# Altium footprint library 2021-03-17_08-27-32.PcbLib: 3 footprints
Each footprint in its own frame and in the unit in brackets; x right, y up, seen from the top. Pads: shape width x height; smd on the part's side, far side on the other; paste and mask are expansions set on the pad; w line width, h text height; cw(c..) or ccw(c..) is an arc to the next point about the centre after c.
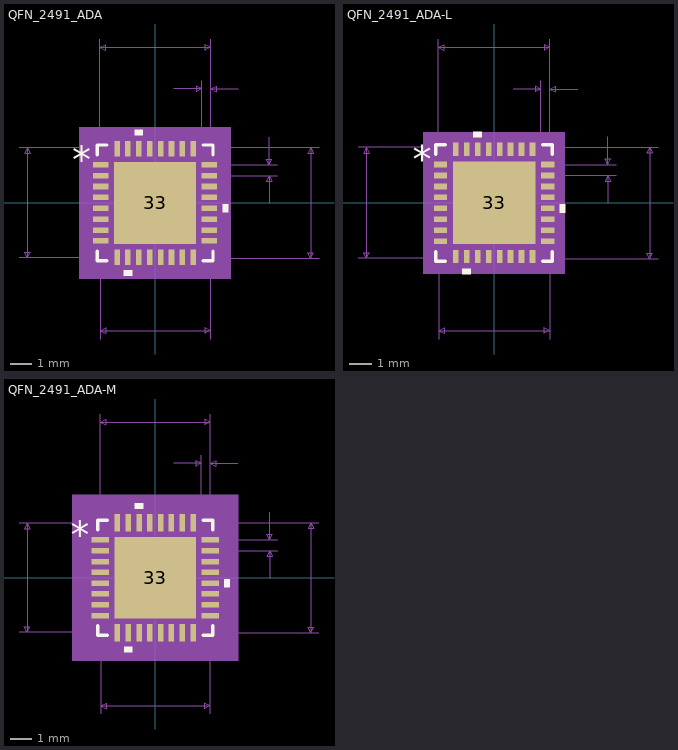
[diagram p0: the footprints below, top view; thin cyan lines are the x and y axes]

## QFN_2491_ADA [mil]
pads (33):
  rect 28x10 smd paste+0 mask+0: 1(-98,68.9) 2(-98,49.21) 3(-98,29.53) 4(-98,9.84) 5(-98,-9.84) 6(-98,-29.53) 7(-98,-49.21) 8(-98,-68.9) 17(98,-68.9) 18(98,-49.21) 19(98,-29.53) 20(98,-9.84) 21(98,9.84) 22(98,29.53) 23(98,49.21) 24(98,68.9)
  rect 10x28 smd paste+0 mask+0: 9(-68.9,-98) 10(-49.21,-98) 11(-29.53,-98) 12(-9.84,-98) 13(9.84,-98) 14(29.53,-98) 15(49.21,-98) 16(68.9,-98) 25(68.9,98) 26(49.21,98) 27(29.53,98) 28(9.84,98) 29(-9.84,98) 30(-29.53,98) 31(-49.21,98) 32(-68.9,98)
  rect 148x148 smd paste-73.5 mask+0: 33(0,0)
Top Overlay:
  region: -41.71,-122 -56.71,-122 -56.71,-132 -41.71,-132
  region: 122,-2.34 132,-2.34 132,-17.34 122,-17.34
  region: -22.03,122 -37.03,122 -37.03,132 -22.03,132
  lines w6: -104.5,-87 -104.5,-104.5 -87,-104.5 ; -104.5,87 -104.5,104.5 -87,104.5 ; 87,-104.5 104.5,-104.5 104.5,-87 ; 87,104.5 104.5,104.5 104.5,87
  text "*" at -149.5,53.74 h50
Top Paste:
  region: -3.94,70.06 -70.06,70.06 -70.06,3.94 -3.94,3.94
  region: -3.94,-3.94 -70.06,-3.94 -70.06,-70.06 -3.94,-70.06
  region: 70.06,70.06 3.94,70.06 3.94,3.94 70.06,3.94
  region: 70.06,-3.94 3.94,-3.94 3.94,-70.06 70.06,-70.06
Mechanical 5:
  region: 137,-137 -137,-137 -137,137 137,137
Mechanical 7:
  lines w1: -246,-99.5 99.5,-99.5 ; -246,99.5 99.5,99.5 99.5,-246 ; -100,68.9 -100,296 ; -99.5,-246 -99.5,99.5 ; 34,206 84,206 ; 68.9,-100 296,-100 ; 68.9,100 296,100 ; 84,68.9 84,221 ; 98,49.21 221,49.21 ; 98,68.9 221,68.9 ; 100,221 100,68.9 100,296 ; 150,206 100,206 ; 206,-0.79 206,49.21 ; 206,118.9 206,68.9 ; -231,-99.5 -231,99.5 ; -231,-99.5 -236,-89.5 -226,-89.5 -231,-99.5 ; -231,99.5 -236,89.5 -226,89.5 -231,99.5 ; -100,281 100,281 ; -100,281 -90,286 -90,276 -100,281 ; -99.5,-231 99.5,-231 ; -99.5,-231 -89.5,-226 -89.5,-236 -99.5,-231 ; 84,206 74,211 74,201 84,206 ; 99.5,-231 89.5,-226 89.5,-236 99.5,-231 ; 100,206 110,211 110,201 100,206 ; 100,281 90,286 90,276 100,281 ; 206,49.21 201,39.21 211,39.21 206,49.21 ; 206,68.9 201,78.9 211,78.9 206,68.9 ; 281,-100 281,100 ; 281,-100 276,-90 286,-90 281,-100 ; 281,100 276,90 286,90 281,100
  text "Default Padstyle: RX10Y28D0T" at -350,-422 h50
  text "Heat Tab Padstyle: RX148Y148D0T" at -387.5,-482 h50
  text "Alt 1 Padstyle: OX60Y90D30P" at -337.5,-602 h50
  text "Alt 2 Padstyle: OX90Y60D30P" at -337.5,-662 h50
  text "0.02in/0.5mm" at 226,46.56 h25
  text "0.016in/0.406mm" at -1.75,226 h25
  text "0.2in/5.08mm" at -75,301 h25
  text "0.2in/5.08mm" at 301,-12.5 h25
  text "0.199in/5.055mm" at -438.5,-12.5 h25
  text "0.199in/5.055mm" at -93.75,-276 h25
Mechanical 13:
  lines w1: -99.5,49.5 -49.5,99.5 ; -99.5,-99.5 99.5,-99.5 ; -99.5,-99.5 -99.5,99.5 ; -99.5,-99.5 -99.5,-99.5 ; -99.5,99.5 99.5,99.5 ; -99.5,99.5 -99.5,99.5 ; 99.5,-99.5 99.5,-99.5 ; 99.5,-99.5 99.5,99.5 ; 99.5,99.5 99.5,99.5 ; -100,-74.9 -100,-62.9 -99.5,-62.9 -99.5,-74.9 -100,-74.9 ; -100,-55.21 -100,-43.21 -99.5,-43.21 -99.5,-55.21 -100,-55.21 ; -100,-35.53 -100,-23.53 -99.5,-23.53 -99.5,-35.53 -100,-35.53 ; -100,-15.84 -100,-3.84 -99.5,-3.84 -99.5,-15.84 -100,-15.84 ; -100,3.84 -100,15.84 -99.5,15.84 -99.5,3.84 -100,3.84 ; -100,23.53 -100,35.53 -99.5,35.53 -99.5,23.53 -100,23.53 ; -100,43.21 -100,55.21 -99.5,55.21 -99.5,43.21 -100,43.21 ; -100,62.9 -100,74.9 -99.5,74.9 -99.5,62.9 -100,62.9 ; -74.9,-100 -74.9,-99.5 -62.9,-99.5 -62.9,-100 -74.9,-100 ; -74.9,99.5 -62.9,99.5 -62.9,100 -74.9,100 -74.9,99.5 ; -55.21,-100 -55.21,-99.5 -43.21,-99.5 -43.21,-100 -55.21,-100 ; -55.21,99.5 -43.21,99.5 -43.21,100 -55.21,100 -55.21,99.5 ; -35.53,-100 -35.53,-99.5 -23.53,-99.5 -23.53,-100 -35.53,-100 ; -35.53,99.5 -23.53,99.5 -23.53,100 -35.53,100 -35.53,99.5 ; -15.84,-100 -15.84,-99.5 -3.84,-99.5 -3.84,-100 -15.84,-100 ; -15.84,99.5 -3.84,99.5 -3.84,100 -15.84,100 -15.84,99.5 ; 3.84,-100 3.84,-99.5 15.84,-99.5 15.84,-100 3.84,-100 ; 3.84,99.5 15.84,99.5 15.84,100 3.84,100 3.84,99.5 ; 23.53,-100 23.53,-99.5 35.53,-99.5 35.53,-100 23.53,-100 ; 23.53,99.5 35.53,99.5 35.53,100 23.53,100 23.53,99.5 ; 43.21,-100 43.21,-99.5 55.21,-99.5 55.21,-100 43.21,-100 ; 43.21,99.5 55.21,99.5 55.21,100 43.21,100 43.21,99.5 ; 62.9,-100 62.9,-99.5 74.9,-99.5 74.9,-100 62.9,-100 ; 62.9,99.5 74.9,99.5 74.9,100 62.9,100 62.9,99.5 ; 99.5,-74.9 99.5,-62.9 100,-62.9 100,-74.9 99.5,-74.9 ; 99.5,-55.21 99.5,-43.21 100,-43.21 100,-55.21 99.5,-55.21 ; 99.5,-35.53 99.5,-23.53 100,-23.53 100,-35.53 99.5,-35.53 ; 99.5,-15.84 99.5,-3.84 100,-3.84 100,-15.84 99.5,-15.84 ; 99.5,3.84 99.5,15.84 100,15.84 100,3.84 99.5,3.84 ; 99.5,23.53 99.5,35.53 100,35.53 100,23.53 99.5,23.53 ; 99.5,43.21 99.5,55.21 100,55.21 100,43.21 99.5,43.21 ; 99.5,62.9 99.5,74.9 100,74.9 100,62.9 99.5,62.9
  text "*" at -96.5,53.74 h50
Mechanical 15:
  region: -83.9,-109.5 -109.5,-109.5 -109.5,-83.9 -122,-83.9 -122,83.9 -109.5,83.9 -109.5,109.5 -83.9,109.5 -83.9,122 83.9,122 83.9,109.5 109.5,109.5 109.5,83.9 122,83.9 122,-83.9 109.5,-83.9 109.5,-109.5 83.9,-109.5 83.9,-122 -83.9,-122
  lines w6: -122,-83.9 -109.5,-83.9 -109.5,-109.5 -83.9,-109.5 -83.9,-122 83.9,-122 83.9,-109.5 109.5,-109.5 109.5,-83.9 122,-83.9 122,83.9 109.5,83.9 109.5,109.5 83.9,109.5 83.9,122 -83.9,122 -83.9,109.5 -109.5,109.5 -109.5,83.9 -122,83.9 -122,-83.9
3D body: height 10, standoff 0, extent 0,0 10,10

## QFN_2491_ADA-L [mil]
pads (33):
  rect 24x10 smd paste+0 mask+0: 1(-96,68.9) 2(-96,49.21) 3(-96,29.53) 4(-96,9.84) 5(-96,-9.84) 6(-96,-29.53) 7(-96,-49.21) 8(-96,-68.9) 17(96,-68.9) 18(96,-49.21) 19(96,-29.53) 20(96,-9.84) 21(96,9.84) 22(96,29.53) 23(96,49.21) 24(96,68.9)
  rect 10x24 smd paste+0 mask+0: 9(-68.9,-96) 10(-49.21,-96) 11(-29.53,-96) 12(-9.84,-96) 13(9.84,-96) 14(29.53,-96) 15(49.21,-96) 16(68.9,-96) 25(68.9,96) 26(49.21,96) 27(29.53,96) 28(9.84,96) 29(-9.84,96) 30(-29.53,96) 31(-49.21,96) 32(-68.9,96)
  rect 148x148 smd paste-73.5 mask+0: 33(0,0)
Top Overlay:
  region: -41.71,-118 -56.71,-118 -56.71,-128 -41.71,-128
  region: 118,-2.34 128,-2.34 128,-17.34 118,-17.34
  region: -22.03,118 -37.03,118 -37.03,128 -22.03,128
  lines w6: -104.5,-87 -104.5,-104.5 -87,-104.5 ; -104.5,87 -104.5,104.5 -87,104.5 ; 87,-104.5 104.5,-104.5 104.5,-87 ; 87,104.5 104.5,104.5 104.5,87
  text "*" at -145.5,53.74 h50
Top Paste:
  region: -3.94,70.06 -70.06,70.06 -70.06,3.94 -3.94,3.94
  region: -3.94,-3.94 -70.06,-3.94 -70.06,-70.06 -3.94,-70.06
  region: 70.06,70.06 3.94,70.06 3.94,3.94 70.06,3.94
  region: 70.06,-3.94 3.94,-3.94 3.94,-70.06 70.06,-70.06
Mechanical 5:
  region: 127,-127 -127,-127 -127,127 127,127
Mechanical 7:
  lines w1: -244,-99.5 99.5,-99.5 ; -244,99.5 99.5,99.5 99.5,-244 ; -100,68.9 -100,294 ; -99.5,-244 -99.5,99.5 ; 34,204 84,204 ; 68.9,-100 294,-100 ; 68.9,100 294,100 ; 84,68.9 84,219 ; 96,49.21 219,49.21 ; 96,68.9 219,68.9 ; 100,219 100,68.9 100,294 ; 150,204 100,204 ; 204,-0.79 204,49.21 ; 204,118.9 204,68.9 ; -229,-99.5 -229,99.5 ; -229,-99.5 -234,-89.5 -224,-89.5 -229,-99.5 ; -229,99.5 -234,89.5 -224,89.5 -229,99.5 ; -100,279 100,279 ; -100,279 -90,284 -90,274 -100,279 ; -99.5,-229 99.5,-229 ; -99.5,-229 -89.5,-224 -89.5,-234 -99.5,-229 ; 84,204 74,209 74,199 84,204 ; 99.5,-229 89.5,-224 89.5,-234 99.5,-229 ; 100,204 110,209 110,199 100,204 ; 100,279 90,284 90,274 100,279 ; 204,49.21 199,39.21 209,39.21 204,49.21 ; 204,68.9 199,78.9 209,78.9 204,68.9 ; 279,-100 279,100 ; 279,-100 274,-90 284,-90 279,-100 ; 279,100 274,90 284,90 279,100
  text "Default Padstyle: RX10Y24D0T" at -350,-418 h50
  text "Heat Tab Padstyle: RX148Y148D0T" at -387.5,-478 h50
  text "Alt 1 Padstyle: OX60Y90D30P" at -337.5,-598 h50
  text "Alt 2 Padstyle: OX90Y60D30P" at -337.5,-658 h50
  text "0.02in/0.5mm" at 224,46.56 h25
  text "0.016in/0.406mm" at -1.75,224 h25
  text "0.2in/5.08mm" at -75,299 h25
  text "0.2in/5.08mm" at 299,-12.5 h25
  text "0.199in/5.055mm" at -436.5,-12.5 h25
  text "0.199in/5.055mm" at -93.75,-274 h25
Mechanical 13:
  lines w1: -99.5,49.5 -49.5,99.5 ; -99.5,-99.5 99.5,-99.5 ; -99.5,-99.5 -99.5,99.5 ; -99.5,-99.5 -99.5,-99.5 ; -99.5,99.5 99.5,99.5 ; -99.5,99.5 -99.5,99.5 ; 99.5,-99.5 99.5,-99.5 ; 99.5,-99.5 99.5,99.5 ; 99.5,99.5 99.5,99.5 ; -100,-74.9 -100,-62.9 -99.5,-62.9 -99.5,-74.9 -100,-74.9 ; -100,-55.21 -100,-43.21 -99.5,-43.21 -99.5,-55.21 -100,-55.21 ; -100,-35.53 -100,-23.53 -99.5,-23.53 -99.5,-35.53 -100,-35.53 ; -100,-15.84 -100,-3.84 -99.5,-3.84 -99.5,-15.84 -100,-15.84 ; -100,3.84 -100,15.84 -99.5,15.84 -99.5,3.84 -100,3.84 ; -100,23.53 -100,35.53 -99.5,35.53 -99.5,23.53 -100,23.53 ; -100,43.21 -100,55.21 -99.5,55.21 -99.5,43.21 -100,43.21 ; -100,62.9 -100,74.9 -99.5,74.9 -99.5,62.9 -100,62.9 ; -74.9,-100 -74.9,-99.5 -62.9,-99.5 -62.9,-100 -74.9,-100 ; -74.9,99.5 -62.9,99.5 -62.9,100 -74.9,100 -74.9,99.5 ; -55.21,-100 -55.21,-99.5 -43.21,-99.5 -43.21,-100 -55.21,-100 ; -55.21,99.5 -43.21,99.5 -43.21,100 -55.21,100 -55.21,99.5 ; -35.53,-100 -35.53,-99.5 -23.53,-99.5 -23.53,-100 -35.53,-100 ; -35.53,99.5 -23.53,99.5 -23.53,100 -35.53,100 -35.53,99.5 ; -15.84,-100 -15.84,-99.5 -3.84,-99.5 -3.84,-100 -15.84,-100 ; -15.84,99.5 -3.84,99.5 -3.84,100 -15.84,100 -15.84,99.5 ; 3.84,-100 3.84,-99.5 15.84,-99.5 15.84,-100 3.84,-100 ; 3.84,99.5 15.84,99.5 15.84,100 3.84,100 3.84,99.5 ; 23.53,-100 23.53,-99.5 35.53,-99.5 35.53,-100 23.53,-100 ; 23.53,99.5 35.53,99.5 35.53,100 23.53,100 23.53,99.5 ; 43.21,-100 43.21,-99.5 55.21,-99.5 55.21,-100 43.21,-100 ; 43.21,99.5 55.21,99.5 55.21,100 43.21,100 43.21,99.5 ; 62.9,-100 62.9,-99.5 74.9,-99.5 74.9,-100 62.9,-100 ; 62.9,99.5 74.9,99.5 74.9,100 62.9,100 62.9,99.5 ; 99.5,-74.9 99.5,-62.9 100,-62.9 100,-74.9 99.5,-74.9 ; 99.5,-55.21 99.5,-43.21 100,-43.21 100,-55.21 99.5,-55.21 ; 99.5,-35.53 99.5,-23.53 100,-23.53 100,-35.53 99.5,-35.53 ; 99.5,-15.84 99.5,-3.84 100,-3.84 100,-15.84 99.5,-15.84 ; 99.5,3.84 99.5,15.84 100,15.84 100,3.84 99.5,3.84 ; 99.5,23.53 99.5,35.53 100,35.53 100,23.53 99.5,23.53 ; 99.5,43.21 99.5,55.21 100,55.21 100,43.21 99.5,43.21 ; 99.5,62.9 99.5,74.9 100,74.9 100,62.9 99.5,62.9
  text "*" at -96.5,53.74 h50
Mechanical 15:
  region: -77.9,-103.5 -103.5,-103.5 -103.5,-77.9 -112,-77.9 -112,77.9 -103.5,77.9 -103.5,103.5 -77.9,103.5 -77.9,112 77.9,112 77.9,103.5 103.5,103.5 103.5,77.9 112,77.9 112,-77.9 103.5,-77.9 103.5,-103.5 77.9,-103.5 77.9,-112 -77.9,-112
  lines w6: -112,-77.9 -103.5,-77.9 -103.5,-103.5 -77.9,-103.5 -77.9,-112 77.9,-112 77.9,-103.5 103.5,-103.5 103.5,-77.9 112,-77.9 112,77.9 103.5,77.9 103.5,103.5 77.9,103.5 77.9,112 -77.9,112 -77.9,103.5 -103.5,103.5 -103.5,77.9 -112,77.9 -112,-77.9
3D body: height 10, standoff 0, extent 0,0 10,10

## QFN_2491_ADA-M [mil]
pads (33):
  rect 32x10 smd paste+0 mask+0: 1(-100,68.9) 2(-100,49.21) 3(-100,29.53) 4(-100,9.84) 5(-100,-9.84) 6(-100,-29.53) 7(-100,-49.21) 8(-100,-68.9) 17(100,-68.9) 18(100,-49.21) 19(100,-29.53) 20(100,-9.84) 21(100,9.84) 22(100,29.53) 23(100,49.21) 24(100,68.9)
  rect 10x32 smd paste+0 mask+0: 9(-68.9,-100) 10(-49.21,-100) 11(-29.53,-100) 12(-9.84,-100) 13(9.84,-100) 14(29.53,-100) 15(49.21,-100) 16(68.9,-100) 25(68.9,100) 26(49.21,100) 27(29.53,100) 28(9.84,100) 29(-9.84,100) 30(-29.53,100) 31(-49.21,100) 32(-68.9,100)
  rect 148x148 smd paste-73.5 mask+0: 33(0,0)
Top Overlay:
  region: -41.71,-126 -56.71,-126 -56.71,-136 -41.71,-136
  region: 126,-2.34 136,-2.34 136,-17.34 126,-17.34
  region: -22.03,126 -37.03,126 -37.03,136 -22.03,136
  lines w6: -104.5,-87 -104.5,-104.5 -87,-104.5 ; -104.5,87 -104.5,104.5 -87,104.5 ; 87,-104.5 104.5,-104.5 104.5,-87 ; 87,104.5 104.5,104.5 104.5,87
  text "*" at -153.5,53.74 h50
Top Paste:
  region: -3.94,70.06 -70.06,70.06 -70.06,3.94 -3.94,3.94
  region: -3.94,-3.94 -70.06,-3.94 -70.06,-70.06 -3.94,-70.06
  region: 70.06,70.06 3.94,70.06 3.94,3.94 70.06,3.94
  region: 70.06,-3.94 3.94,-3.94 3.94,-70.06 70.06,-70.06
Mechanical 5:
  region: 151,-151 -151,-151 -151,151 151,151
Mechanical 7:
  lines w1: -248,-99.5 99.5,-99.5 ; -248,99.5 99.5,99.5 99.5,-248 ; -100,68.9 -100,298 ; -99.5,-248 -99.5,99.5 ; 34,208 84,208 ; 68.9,-100 298,-100 ; 68.9,100 298,100 ; 84,68.9 84,223 ; 100,49.21 223,49.21 ; 100,223 100,68.9 ; 100,298 100,68.9 ; 150,208 100,208 ; 208,-0.79 208,49.21 ; 208,118.9 208,68.9 ; 223,68.9 100,68.9 ; -233,-99.5 -233,99.5 ; -233,-99.5 -238,-89.5 -228,-89.5 -233,-99.5 ; -233,99.5 -238,89.5 -228,89.5 -233,99.5 ; -100,283 100,283 ; -100,283 -90,288 -90,278 -100,283 ; -99.5,-233 99.5,-233 ; -99.5,-233 -89.5,-228 -89.5,-238 -99.5,-233 ; 84,208 74,213 74,203 84,208 ; 99.5,-233 89.5,-228 89.5,-238 99.5,-233 ; 100,208 110,213 110,203 100,208 ; 100,283 90,288 90,278 100,283 ; 208,49.21 203,39.21 213,39.21 208,49.21 ; 208,68.9 203,78.9 213,78.9 208,68.9 ; 283,-100 283,100 ; 283,-100 278,-90 288,-90 283,-100 ; 283,100 278,90 288,90 283,100
  text "Default Padstyle: RX10Y32D0T" at -350,-426 h50
  text "Heat Tab Padstyle: RX148Y148D0T" at -387.5,-486 h50
  text "Alt 1 Padstyle: OX60Y90D30P" at -337.5,-606 h50
  text "Alt 2 Padstyle: OX90Y60D30P" at -337.5,-666 h50
  text "0.02in/0.5mm" at 228,46.56 h25
  text "0.016in/0.406mm" at -1.75,228 h25
  text "0.2in/5.08mm" at -75,303 h25
  text "0.2in/5.08mm" at 303,-12.5 h25
  text "0.199in/5.055mm" at -440.5,-12.5 h25
  text "0.199in/5.055mm" at -93.75,-278 h25
Mechanical 13:
  lines w1: -99.5,49.5 -49.5,99.5 ; -99.5,-99.5 99.5,-99.5 ; -99.5,-99.5 -99.5,99.5 ; -99.5,-99.5 -99.5,-99.5 ; -99.5,99.5 99.5,99.5 ; -99.5,99.5 -99.5,99.5 ; 99.5,-99.5 99.5,-99.5 ; 99.5,-99.5 99.5,99.5 ; 99.5,99.5 99.5,99.5 ; -100,-74.9 -100,-62.9 -99.5,-62.9 -99.5,-74.9 -100,-74.9 ; -100,-55.21 -100,-43.21 -99.5,-43.21 -99.5,-55.21 -100,-55.21 ; -100,-35.53 -100,-23.53 -99.5,-23.53 -99.5,-35.53 -100,-35.53 ; -100,-15.84 -100,-3.84 -99.5,-3.84 -99.5,-15.84 -100,-15.84 ; -100,3.84 -100,15.84 -99.5,15.84 -99.5,3.84 -100,3.84 ; -100,23.53 -100,35.53 -99.5,35.53 -99.5,23.53 -100,23.53 ; -100,43.21 -100,55.21 -99.5,55.21 -99.5,43.21 -100,43.21 ; -100,62.9 -100,74.9 -99.5,74.9 -99.5,62.9 -100,62.9 ; -74.9,-100 -74.9,-99.5 -62.9,-99.5 -62.9,-100 -74.9,-100 ; -74.9,99.5 -62.9,99.5 -62.9,100 -74.9,100 -74.9,99.5 ; -55.21,-100 -55.21,-99.5 -43.21,-99.5 -43.21,-100 -55.21,-100 ; -55.21,99.5 -43.21,99.5 -43.21,100 -55.21,100 -55.21,99.5 ; -35.53,-100 -35.53,-99.5 -23.53,-99.5 -23.53,-100 -35.53,-100 ; -35.53,99.5 -23.53,99.5 -23.53,100 -35.53,100 -35.53,99.5 ; -15.84,-100 -15.84,-99.5 -3.84,-99.5 -3.84,-100 -15.84,-100 ; -15.84,99.5 -3.84,99.5 -3.84,100 -15.84,100 -15.84,99.5 ; 3.84,-100 3.84,-99.5 15.84,-99.5 15.84,-100 3.84,-100 ; 3.84,99.5 15.84,99.5 15.84,100 3.84,100 3.84,99.5 ; 23.53,-100 23.53,-99.5 35.53,-99.5 35.53,-100 23.53,-100 ; 23.53,99.5 35.53,99.5 35.53,100 23.53,100 23.53,99.5 ; 43.21,-100 43.21,-99.5 55.21,-99.5 55.21,-100 43.21,-100 ; 43.21,99.5 55.21,99.5 55.21,100 43.21,100 43.21,99.5 ; 62.9,-100 62.9,-99.5 74.9,-99.5 74.9,-100 62.9,-100 ; 62.9,99.5 74.9,99.5 74.9,100 62.9,100 62.9,99.5 ; 99.5,-74.9 99.5,-62.9 100,-62.9 100,-74.9 99.5,-74.9 ; 99.5,-55.21 99.5,-43.21 100,-43.21 100,-55.21 99.5,-55.21 ; 99.5,-35.53 99.5,-23.53 100,-23.53 100,-35.53 99.5,-35.53 ; 99.5,-15.84 99.5,-3.84 100,-3.84 100,-15.84 99.5,-15.84 ; 99.5,3.84 99.5,15.84 100,15.84 100,3.84 99.5,3.84 ; 99.5,23.53 99.5,35.53 100,35.53 100,23.53 99.5,23.53 ; 99.5,43.21 99.5,55.21 100,55.21 100,43.21 99.5,43.21 ; 99.5,62.9 99.5,74.9 100,74.9 100,62.9 99.5,62.9
  text "*" at -96.5,53.74 h50
Mechanical 15:
  region: -93.9,-119.5 -119.5,-119.5 -119.5,-93.9 -136,-93.9 -136,93.9 -119.5,93.9 -119.5,119.5 -93.9,119.5 -93.9,136 93.9,136 93.9,119.5 119.5,119.5 119.5,93.9 136,93.9 136,-93.9 119.5,-93.9 119.5,-119.5 93.9,-119.5 93.9,-136 -93.9,-136
  lines w6: -136,-93.9 -119.5,-93.9 -119.5,-119.5 -93.9,-119.5 -93.9,-136 93.9,-136 93.9,-119.5 119.5,-119.5 119.5,-93.9 136,-93.9 136,93.9 119.5,93.9 119.5,119.5 93.9,119.5 93.9,136 -93.9,136 -93.9,119.5 -119.5,119.5 -119.5,93.9 -136,93.9 -136,-93.9
3D body: height 10, standoff 0, extent 0,0 10,10